# Altium integrated library Amphenol.IntLib: 4 symbols
Pins are listed as number, name and electrical type; pins without a type are passive.

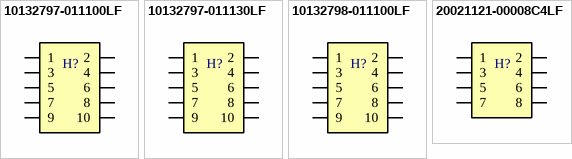
[diagram p0: symbols 10132797-011100LF to 20021121-00008C4LF]

## 10132797-011100LF
designator H?, comment CONN HEADER SMD 10POS 0.5MM  (value not drawn)
BergStak® 0.5mm Mezzanine Connector, Board To Board Connectors, 10 position, 2.3mm height plug connector.; MPN: 10132797-011100LF; System: Connector; Supplier 1: Digi-Key; Supplier Part Number 1: 609-5020-1-ND
footprint 10132797-011100LF (BergStak® 0.5mm Mezzanine Connector, Board To Board Connectors, 10 position, 2.3mm height plug connector.)
pins: 1, 2, 3, 4, 5, 6, 7, 8, 9, 10

## 10132797-011130LF
designator H?, comment CONN HEADER SMD 10POS 0.5MM  (value not drawn)
BergStak® 0.5mm Mezzanine Connector, Board To Board Connectors, 10 position, 2.3mm height plug connector.; MPN: 10132797-011130LF; System: Connector; Supplier 1: Digi-Key; Supplier Part Number 1: 10132797-011130LF-ND
footprint Model Name (Footprint not found)
pins: 1, 2, 3, 4, 5, 6, 7, 8, 9, 10

## 10132798-011100LF
designator H?, comment CONN HEADER SMD 10POS 0.5MM  (value not drawn)
BergStak® 0.5mm Mezzanine Connector, Board To Board Connectors, 10 position, 2.15mm height receptacle connector.; MPN: 10132798-011100LF; Supplier 1: Digi-Key; Supplier Part Number 1: 609-5026-1-ND; System: Connector
footprint 10132798-011100LF (BergStak® 0.5mm Mezzanine Connector, Board To Board Connectors, 10 position, 2.15mm height receptacle connector.)
pins: 1, 2, 3, 4, 5, 6, 7, 8, 9, 10

## 20021121-00008C4LF
designator H?, comment CONN HEADER SMD 8POS 1.27MM  (value not drawn)
Connector Header Surface Mount 8 position 0.050" (1.27mm); Supplier 1: Digi-Key; Supplier Part Number 1: 609-3694-1-ND; System: Connector
footprint 20021121-00008C4LF
pins: 1, 2, 3, 4, 5, 6, 7, 8